# Altium integrated library Altera MAX 5000.IntLib: 45 symbols (part 2 of 2)
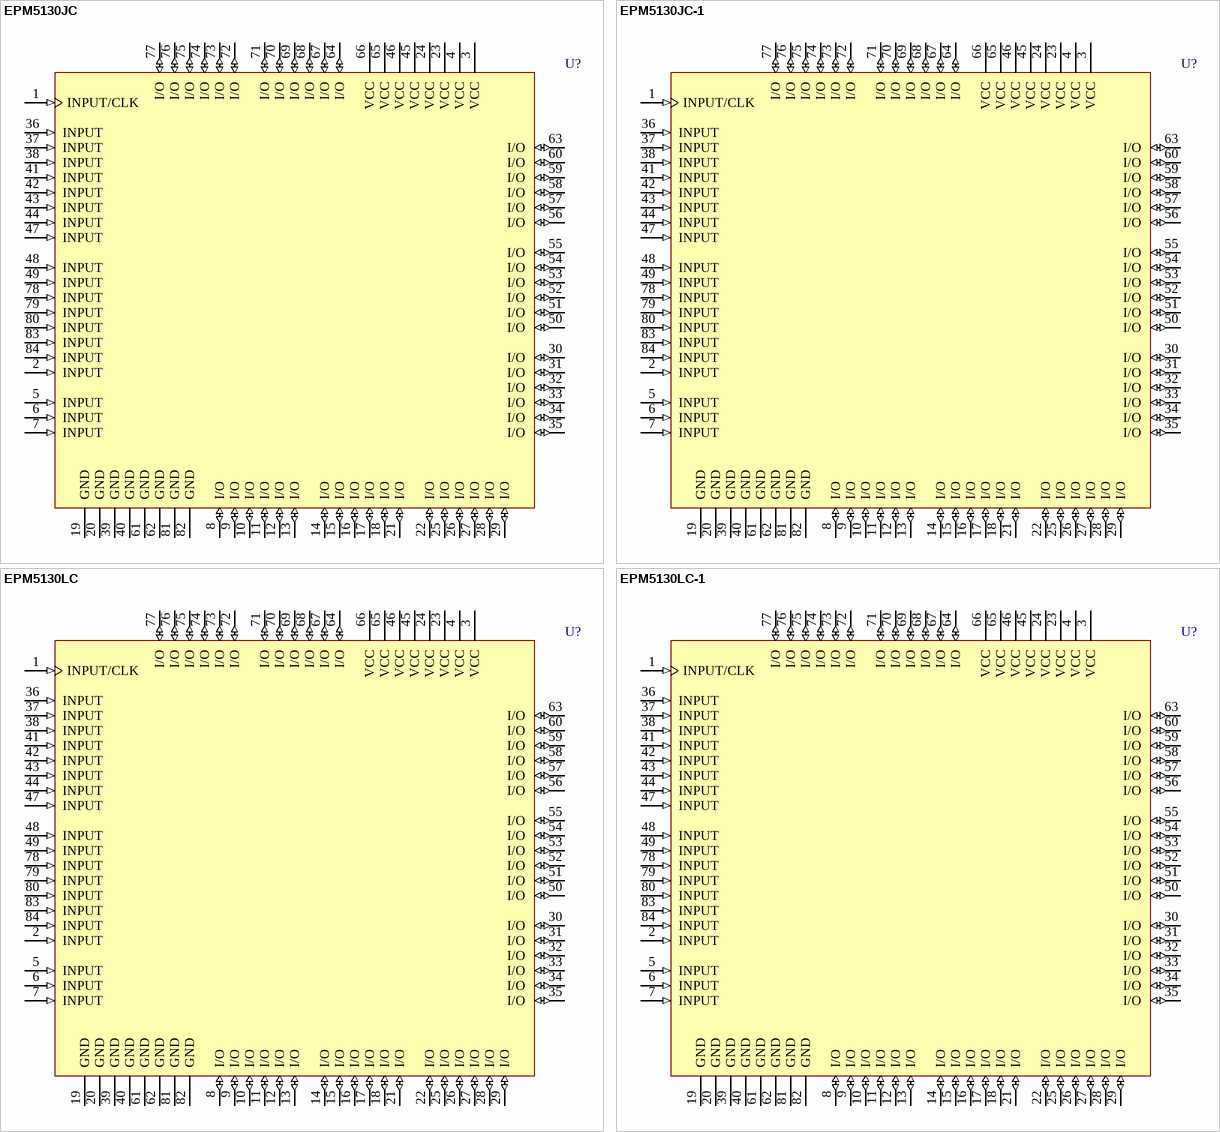
[diagram p7: symbols EPM5130JC to EPM5130LC-1]

## EPM5130JC-1
designator U?
General-Purpose MAX 5000 EPLD with 128 Macrocells, JLCC84, Commercial Grade; ComponentAvailability: Discontinued; Published: 24-Nov-2000; LatestRevisionDate: 13-Apr-2006; LatestRevisionNote: IPC-7351 Footprint Added.; DatasheetVersion: Mar-1995; PackageVersion: ver8.02, Jun-2000; PackageReference: JLCC84; Publisher: Altium Limited; PackageDescription: 84-Pin Ceramic J-Lead Chip Carrier (JLCC84); Code_JEDEC: MO-087; ComponentLink1Description: Manufacturer Link; ComponentLink1URL: http://www.altera.com/literature/lit-mature.jsp
footprint JLCC84_N (Leaded Chip Carrier, 84-Leads, Body 29.2x29.2mm, Pitch 1.27mm, IPC Medium Density)
footprint JLCC84_L (Leaded Chip Carrier, 84-Leads, Body 29.2x29.2mm, Pitch 1.27mm, IPC High Density)
footprint JLCC84_M (Leaded Chip Carrier, 84-Leads, Body 29.2x29.2mm, Pitch 1.27mm, IPC Low Density)
3D model EPM5130-JLCC84 (84-Pin Ceramic J-Lead Chip Carrier (JLCC84))
pins: 1 INPUT/CLK (in), 2 INPUT (in), 3 VCC (power), 4 VCC (power), 5 INPUT (in), 6 INPUT (in), 7 INPUT (in), 8 I/O (io), 9 I/O (io), 10 I/O (io), 11 I/O (io), 12 I/O (io), 13 I/O (io), 14 I/O (io), 15 I/O (io), 16 I/O (io), 17 I/O (io), 18 I/O (io), 19 GND (power), 20 GND (power), 21 I/O (io), 22 I/O (io), 23 VCC (power), 24 VCC (power), 25 I/O (io), 26 I/O (io), 27 I/O (io), 28 I/O (io), 29 I/O (io), 30 I/O (io), 31 I/O (io), 32 I/O (io), 33 I/O (io), 34 I/O (io), 35 I/O (io), 36 INPUT (in), 37 INPUT (in), 38 INPUT (in), 39 GND (power), 40 GND (power), 41 INPUT (in), 42 INPUT (in), 43 INPUT (in), 44 INPUT (in), 45 VCC (power), 46 VCC (power), 47 INPUT (in), 48 INPUT (in), 49 INPUT (in), 50 I/O (io), 51 I/O (io), 52 I/O (io), 53 I/O (io), 54 I/O (io), 55 I/O (io), 56 I/O (io), 57 I/O (io), 58 I/O (io), 59 I/O (io), 60 I/O (io), 61 GND (power), 62 GND (power), 63 I/O (io), 64 I/O (io), 65 VCC (power), 66 VCC (power), 67 I/O (io), 68 I/O (io), 69 I/O (io), 70 I/O (io), 71 I/O (io), 72 I/O (io), 73 I/O (io), 74 I/O (io), 75 I/O (io), 76 I/O (io), 77 I/O (io), 78 INPUT (in), 79 INPUT (in), 80 INPUT (in), 81 GND (power), 82 GND (power), 83 INPUT (in), 84 INPUT (in)

## EPM5130LC
designator U?
General-Purpose MAX 5000 EPLD with 128 Macrocells, PLCC84, Commercial Grade; ComponentAvailability: Discontinued; Published: 24-Nov-2000; LatestRevisionDate: 13-Apr-2006; LatestRevisionNote: IPC-7351 Footprint Added.; DatasheetVersion: Mar-1995; PackageVersion: ver14.1, Oct-2005; PackageReference: PLCC84; Publisher: Altium Limited; PackageDescription: 84-Pin Plastic J-Lead Chip Carrier (PLCC84); Code_JEDEC: MS-018-AF; Code_IPC: PLCC-84; ComponentLink1Description: Manufacturer Link; ComponentLink1URL: http://www.altera.com/literature/lit-mature.jsp
footprint PLCC84_N (Leaded Chip Carrier, 84-Leads, Body 29.3x29.3mm, Pitch 1.27mm, IPC Medium Density)
footprint PLCC84_L (Leaded Chip Carrier, 84-Leads, Body 29.3x29.3mm, Pitch 1.27mm, IPC High Density)
footprint PLCC84_M (Leaded Chip Carrier, 84-Leads, Body 29.3x29.3mm, Pitch 1.27mm, IPC Low Density)
3D model EPM5130-PLCC84 (84-Pin Plastic J-Lead Chip Carrier (PLCC84))
pins: 1 INPUT/CLK (in), 2 INPUT (in), 3 VCC (power), 4 VCC (power), 5 INPUT (in), 6 INPUT (in), 7 INPUT (in), 8 I/O (io), 9 I/O (io), 10 I/O (io), 11 I/O (io), 12 I/O (io), 13 I/O (io), 14 I/O (io), 15 I/O (io), 16 I/O (io), 17 I/O (io), 18 I/O (io), 19 GND (power), 20 GND (power), 21 I/O (io), 22 I/O (io), 23 VCC (power), 24 VCC (power), 25 I/O (io), 26 I/O (io), 27 I/O (io), 28 I/O (io), 29 I/O (io), 30 I/O (io), 31 I/O (io), 32 I/O (io), 33 I/O (io), 34 I/O (io), 35 I/O (io), 36 INPUT (in), 37 INPUT (in), 38 INPUT (in), 39 GND (power), 40 GND (power), 41 INPUT (in), 42 INPUT (in), 43 INPUT (in), 44 INPUT (in), 45 VCC (power), 46 VCC (power), 47 INPUT (in), 48 INPUT (in), 49 INPUT (in), 50 I/O (io), 51 I/O (io), 52 I/O (io), 53 I/O (io), 54 I/O (io), 55 I/O (io), 56 I/O (io), 57 I/O (io), 58 I/O (io), 59 I/O (io), 60 I/O (io), 61 GND (power), 62 GND (power), 63 I/O (io), 64 I/O (io), 65 VCC (power), 66 VCC (power), 67 I/O (io), 68 I/O (io), 69 I/O (io), 70 I/O (io), 71 I/O (io), 72 I/O (io), 73 I/O (io), 74 I/O (io), 75 I/O (io), 76 I/O (io), 77 I/O (io), 78 INPUT (in), 79 INPUT (in), 80 INPUT (in), 81 GND (power), 82 GND (power), 83 INPUT (in), 84 INPUT (in)

## EPM5130LC-1
designator U?
General-Purpose MAX 5000 EPLD with 128 Macrocells, PLCC84, Commercial Grade; ComponentAvailability: Discontinued; Published: 24-Nov-2000; LatestRevisionDate: 13-Apr-2006; LatestRevisionNote: IPC-7351 Footprint Added.; DatasheetVersion: Mar-1995; PackageVersion: ver14.1, Oct-2005; PackageReference: PLCC84; Publisher: Altium Limited; PackageDescription: 84-Pin Plastic J-Lead Chip Carrier (PLCC84); Code_JEDEC: MS-018-AF; Code_IPC: PLCC-84; ComponentLink1Description: Manufacturer Link; ComponentLink1URL: http://www.altera.com/literature/lit-mature.jsp
footprint PLCC84_N (Leaded Chip Carrier, 84-Leads, Body 29.3x29.3mm, Pitch 1.27mm, IPC Medium Density)
footprint PLCC84_L (Leaded Chip Carrier, 84-Leads, Body 29.3x29.3mm, Pitch 1.27mm, IPC High Density)
footprint PLCC84_M (Leaded Chip Carrier, 84-Leads, Body 29.3x29.3mm, Pitch 1.27mm, IPC Low Density)
3D model EPM5130-PLCC84 (84-Pin Plastic J-Lead Chip Carrier (PLCC84))
pins: 1 INPUT/CLK (in), 2 INPUT (in), 3 VCC (power), 4 VCC (power), 5 INPUT (in), 6 INPUT (in), 7 INPUT (in), 8 I/O (io), 9 I/O (io), 10 I/O (io), 11 I/O (io), 12 I/O (io), 13 I/O (io), 14 I/O (io), 15 I/O (io), 16 I/O (io), 17 I/O (io), 18 I/O (io), 19 GND (power), 20 GND (power), 21 I/O (io), 22 I/O (io), 23 VCC (power), 24 VCC (power), 25 I/O (io), 26 I/O (io), 27 I/O (io), 28 I/O (io), 29 I/O (io), 30 I/O (io), 31 I/O (io), 32 I/O (io), 33 I/O (io), 34 I/O (io), 35 I/O (io), 36 INPUT (in), 37 INPUT (in), 38 INPUT (in), 39 GND (power), 40 GND (power), 41 INPUT (in), 42 INPUT (in), 43 INPUT (in), 44 INPUT (in), 45 VCC (power), 46 VCC (power), 47 INPUT (in), 48 INPUT (in), 49 INPUT (in), 50 I/O (io), 51 I/O (io), 52 I/O (io), 53 I/O (io), 54 I/O (io), 55 I/O (io), 56 I/O (io), 57 I/O (io), 58 I/O (io), 59 I/O (io), 60 I/O (io), 61 GND (power), 62 GND (power), 63 I/O (io), 64 I/O (io), 65 VCC (power), 66 VCC (power), 67 I/O (io), 68 I/O (io), 69 I/O (io), 70 I/O (io), 71 I/O (io), 72 I/O (io), 73 I/O (io), 74 I/O (io), 75 I/O (io), 76 I/O (io), 77 I/O (io), 78 INPUT (in), 79 INPUT (in), 80 INPUT (in), 81 GND (power), 82 GND (power), 83 INPUT (in), 84 INPUT (in)

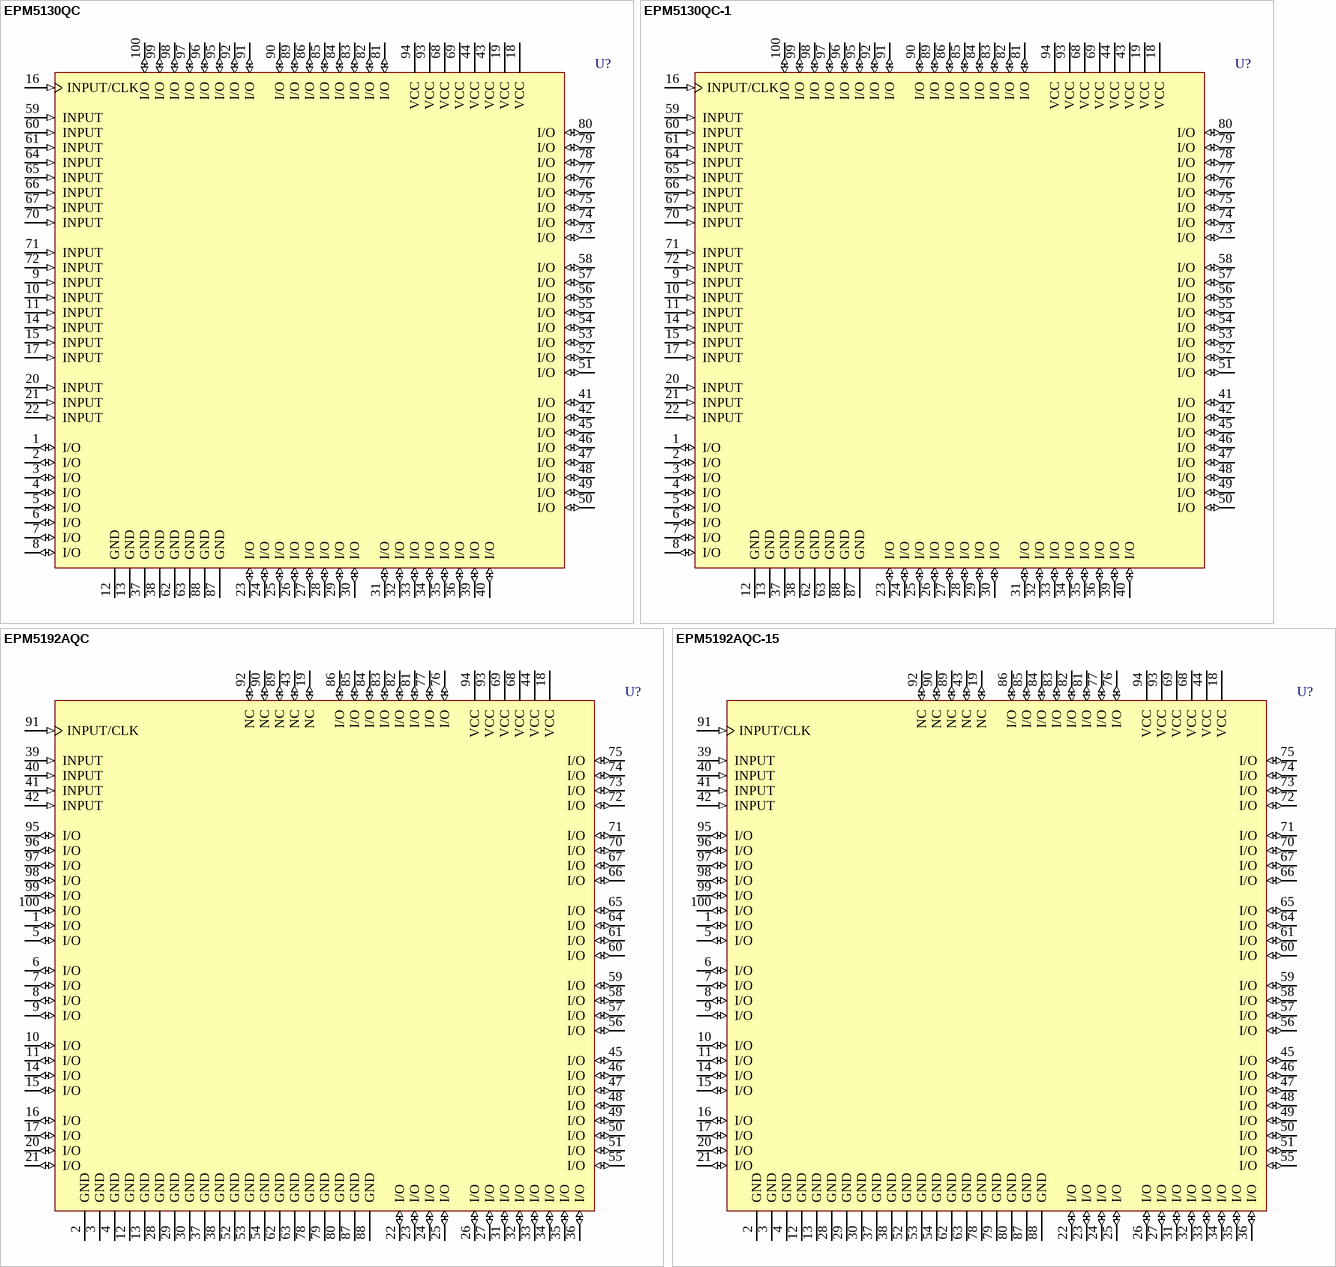
[diagram p4: symbols EPM5130QC to EPM5192AQC-15]

## EPM5130QC
designator U?
General-Purpose MAX 5000 EPLD with 128 Macrocells, PQFP100, Commercial Grade; ComponentAvailability: Discontinued; Published: 24-Nov-2000; LatestRevisionDate: 13-Apr-2006; LatestRevisionNote: IPC-7351 Footprint Added.; DatasheetVersion: Mar-1995; PackageVersion: ver14.1, Oct-2005; PackageReference: PQFP100; Publisher: Altium Limited; PackageDescription: 100-Pin Plastic Quad Flat Pack (PFQP100) - Option 1; Code_JEDEC: MS-022-GC-1; Code_IPC: QFP65P1720X2320-100; ComponentLink1Description: Manufacturer Link; ComponentLink1URL: http://www.altera.com/literature/lit-mature.jsp
footprint PQFP100_N (QFP, 100-Leads, Body 20x14mm, Pitch 0.65mm, IPC Medium Density)
footprint PQFP100_L (QFP, 100-Leads, Body 20x14mm, Pitch 0.65mm, IPC High Density)
footprint PQFP100_M (QFP, 100-Leads, Body 20x14mm, Pitch 0.65mm, IPC Low Density)
3D model EPM5130-PQFP100 (100-Pin Plastic Quad Flat Pack (PFQP100) - Option 1)
pins: 1 I/O (io), 2 I/O (io), 3 I/O (io), 4 I/O (io), 5 I/O (io), 6 I/O (io), 7 I/O (io), 8 I/O (io), 9 INPUT (in), 10 INPUT (in), 11 INPUT (in), 12 GND (power), 13 GND (power), 14 INPUT (in), 15 INPUT (in), 16 INPUT/CLK (in), 17 INPUT (in), 18 VCC (power), 19 VCC (power), 20 INPUT (in), 21 INPUT (in), 22 INPUT (in), 23 I/O (io), 24 I/O (io), 25 I/O (io), 26 I/O (io), 27 I/O (io), 28 I/O (io), 29 I/O (io), 30 I/O (io), 31 I/O (io), 32 I/O (io), 33 I/O (io), 34 I/O (io), 35 I/O (io), 36 I/O (io), 37 GND (power), 38 GND (power), 39 I/O (io), 40 I/O (io), 41 I/O (io), 42 I/O (io), 43 VCC (power), 44 VCC (power), 45 I/O (io), 46 I/O (io), 47 I/O (io), 48 I/O (io), 49 I/O (io), 50 I/O (io), 51 I/O (io), 52 I/O (io), 53 I/O (io), 54 I/O (io), 55 I/O (io), 56 I/O (io), 57 I/O (io), 58 I/O (io), 59 INPUT (in), 60 INPUT (in), 61 INPUT (in), 62 GND (power), 63 GND (power), 64 INPUT (in), 65 INPUT (in), 66 INPUT (in), 67 INPUT (in), 68 VCC (power), 69 VCC (power), 70 INPUT (in), 71 INPUT (in), 72 INPUT (in), 73 I/O (io), 74 I/O (io), 75 I/O (io), 76 I/O (io), 77 I/O (io), 78 I/O (io), 79 I/O (io), 80 I/O (io), 81 I/O (io), 82 I/O (io), 83 I/O (io), 84 I/O (io), 85 I/O (io), 86 I/O (io), 87 GND (power), 88 GND (power), 89 I/O (io), 90 I/O (io), 91 I/O (io), 92 I/O (io), 93 VCC (power), 94 VCC (power), 95 I/O (io), 96 I/O (io), 97 I/O (io), 98 I/O (io), 99 I/O (io), 100 I/O (io)

## EPM5130QC-1
designator U?
General-Purpose MAX 5000 EPLD with 128 Macrocells, PQFP100, Commercial Grade; ComponentAvailability: Discontinued; Published: 24-Nov-2000; LatestRevisionDate: 13-Apr-2006; LatestRevisionNote: IPC-7351 Footprint Added.; DatasheetVersion: Mar-1995; PackageVersion: ver14.1, Oct-2005; PackageReference: PQFP100; Publisher: Altium Limited; PackageDescription: 100-Pin Plastic Quad Flat Pack (PFQP100) - Option 1; Code_JEDEC: MS-022-GC-1; Code_IPC: QFP65P1720X2320-100; ComponentLink1Description: Manufacturer Link; ComponentLink1URL: http://www.altera.com/literature/lit-mature.jsp
footprint PQFP100_N (QFP, 100-Leads, Body 20x14mm, Pitch 0.65mm, IPC Medium Density)
footprint PQFP100_L (QFP, 100-Leads, Body 20x14mm, Pitch 0.65mm, IPC High Density)
footprint PQFP100_M (QFP, 100-Leads, Body 20x14mm, Pitch 0.65mm, IPC Low Density)
3D model EPM5130-PQFP100 (100-Pin Plastic Quad Flat Pack (PFQP100) - Option 1)
pins: 1 I/O (io), 2 I/O (io), 3 I/O (io), 4 I/O (io), 5 I/O (io), 6 I/O (io), 7 I/O (io), 8 I/O (io), 9 INPUT (in), 10 INPUT (in), 11 INPUT (in), 12 GND (power), 13 GND (power), 14 INPUT (in), 15 INPUT (in), 16 INPUT/CLK (in), 17 INPUT (in), 18 VCC (power), 19 VCC (power), 20 INPUT (in), 21 INPUT (in), 22 INPUT (in), 23 I/O (io), 24 I/O (io), 25 I/O (io), 26 I/O (io), 27 I/O (io), 28 I/O (io), 29 I/O (io), 30 I/O (io), 31 I/O (io), 32 I/O (io), 33 I/O (io), 34 I/O (io), 35 I/O (io), 36 I/O (io), 37 GND (power), 38 GND (power), 39 I/O (io), 40 I/O (io), 41 I/O (io), 42 I/O (io), 43 VCC (power), 44 VCC (power), 45 I/O (io), 46 I/O (io), 47 I/O (io), 48 I/O (io), 49 I/O (io), 50 I/O (io), 51 I/O (io), 52 I/O (io), 53 I/O (io), 54 I/O (io), 55 I/O (io), 56 I/O (io), 57 I/O (io), 58 I/O (io), 59 INPUT (in), 60 INPUT (in), 61 INPUT (in), 62 GND (power), 63 GND (power), 64 INPUT (in), 65 INPUT (in), 66 INPUT (in), 67 INPUT (in), 68 VCC (power), 69 VCC (power), 70 INPUT (in), 71 INPUT (in), 72 INPUT (in), 73 I/O (io), 74 I/O (io), 75 I/O (io), 76 I/O (io), 77 I/O (io), 78 I/O (io), 79 I/O (io), 80 I/O (io), 81 I/O (io), 82 I/O (io), 83 I/O (io), 84 I/O (io), 85 I/O (io), 86 I/O (io), 87 GND (power), 88 GND (power), 89 I/O (io), 90 I/O (io), 91 I/O (io), 92 I/O (io), 93 VCC (power), 94 VCC (power), 95 I/O (io), 96 I/O (io), 97 I/O (io), 98 I/O (io), 99 I/O (io), 100 I/O (io)

## EPM5192AQC
designator U?
General-Purpose MAX 5000 EPLD with 192 Macrocells, PQFP100, Commercial Grade; ComponentAvailability: Discontinued; Published: 24-Nov-2000; LatestRevisionDate: 13-Apr-2006; LatestRevisionNote: IPC-7351 Footprint Added.; DatasheetVersion: Mar-1995; PackageVersion: ver14.1, Oct-2005; PackageReference: PQFP100; Publisher: Altium Limited; PackageDescription: 100-Pin Plastic Quad Flat Pack (PFQP100) - Option 1; Code_JEDEC: MS-022-GC-1; Code_IPC: QFP65P1720X2320-100; ComponentLink1Description: Manufacturer Link; ComponentLink1URL: http://www.altera.com/literature/lit-mature.jsp
footprint PQFP100_N (QFP, 100-Leads, Body 20x14mm, Pitch 0.65mm, IPC Medium Density)
footprint PQFP100_L (QFP, 100-Leads, Body 20x14mm, Pitch 0.65mm, IPC High Density)
footprint PQFP100_M (QFP, 100-Leads, Body 20x14mm, Pitch 0.65mm, IPC Low Density)
3D model EPM5192-PQFP100 (100-Pin Plastic Quad Flat Pack (PFQP100) - Option 1)
pins: 1 I/O (io), 2 GND (power), 3 GND (power), 4 GND (power), 5 I/O (io), 6 I/O (io), 7 I/O (io), 8 I/O (io), 9 I/O (io), 10 I/O (io), 11 I/O (io), 12 GND (power), 13 GND (power), 14 I/O (io), 15 I/O (io), 16 I/O (io), 17 I/O (io), 18 VCC (power), 19 NC (io), 20 I/O (io), 21 I/O (io), 22 I/O (io), 23 I/O (io), 24 I/O (io), 25 I/O (io), 26 I/O (io), 27 I/O (io), 28 GND (power), 29 GND (power), 30 GND (power), 31 I/O (io), 32 I/O (io), 33 I/O (io), 34 I/O (io), 35 I/O (io), 36 I/O (io), 37 GND (power), 38 GND (power), 39 INPUT (in), 40 INPUT (in), 41 INPUT (in), 42 INPUT (in), 43 NC (io), 44 VCC (power), 45 I/O (io), 46 I/O (io), 47 I/O (io), 48 I/O (io), 49 I/O (io), 50 I/O (io), 51 I/O (io), 52 GND (power), 53 GND (power), 54 GND (power), 55 I/O (io), 56 I/O (io), 57 I/O (io), 58 I/O (io), 59 I/O (io), 60 I/O (io), 61 I/O (io), 62 GND (power), 63 GND (power), 64 I/O (io), 65 I/O (io), 66 I/O (io), 67 I/O (io), 68 VCC (power), 69 VCC (power), 70 I/O (io), 71 I/O (io), 72 I/O (io), 73 I/O (io), 74 I/O (io), 75 I/O (io), 76 I/O (io), 77 I/O (io), 78 GND (power), 79 GND (power), 80 GND (power), 81 I/O (io), 82 I/O (io), 83 I/O (io), 84 I/O (io), 85 I/O (io), 86 I/O (io), 87 GND (power), 88 GND (power), 89 NC (io), 90 NC (io), 91 INPUT/CLK (in), 92 NC (io), 93 VCC (power), 94 VCC (power), 95 I/O (io), 96 I/O (io), 97 I/O (io), 98 I/O (io), 99 I/O (io), 100 I/O (io)

## EPM5192AQC-15
designator U?
General-Purpose MAX 5000 EPLD with 192 Macrocells, PQFP100, Commercial Grade; ComponentAvailability: Discontinued; Published: 24-Nov-2000; LatestRevisionDate: 13-Apr-2006; LatestRevisionNote: IPC-7351 Footprint Added.; DatasheetVersion: Mar-1995; PackageVersion: ver14.1, Oct-2005; PackageReference: PQFP100; Publisher: Altium Limited; PackageDescription: 100-Pin Plastic Quad Flat Pack (PFQP100) - Option 1; Code_JEDEC: MS-022-GC-1; Code_IPC: QFP65P1720X2320-100; ComponentLink1Description: Manufacturer Link; ComponentLink1URL: http://www.altera.com/literature/lit-mature.jsp
footprint PQFP100_N (QFP, 100-Leads, Body 20x14mm, Pitch 0.65mm, IPC Medium Density)
footprint PQFP100_L (QFP, 100-Leads, Body 20x14mm, Pitch 0.65mm, IPC High Density)
footprint PQFP100_M (QFP, 100-Leads, Body 20x14mm, Pitch 0.65mm, IPC Low Density)
3D model EPM5192-PQFP100 (100-Pin Plastic Quad Flat Pack (PFQP100) - Option 1)
pins: 1 I/O (io), 2 GND (power), 3 GND (power), 4 GND (power), 5 I/O (io), 6 I/O (io), 7 I/O (io), 8 I/O (io), 9 I/O (io), 10 I/O (io), 11 I/O (io), 12 GND (power), 13 GND (power), 14 I/O (io), 15 I/O (io), 16 I/O (io), 17 I/O (io), 18 VCC (power), 19 NC (io), 20 I/O (io), 21 I/O (io), 22 I/O (io), 23 I/O (io), 24 I/O (io), 25 I/O (io), 26 I/O (io), 27 I/O (io), 28 GND (power), 29 GND (power), 30 GND (power), 31 I/O (io), 32 I/O (io), 33 I/O (io), 34 I/O (io), 35 I/O (io), 36 I/O (io), 37 GND (power), 38 GND (power), 39 INPUT (in), 40 INPUT (in), 41 INPUT (in), 42 INPUT (in), 43 NC (io), 44 VCC (power), 45 I/O (io), 46 I/O (io), 47 I/O (io), 48 I/O (io), 49 I/O (io), 50 I/O (io), 51 I/O (io), 52 GND (power), 53 GND (power), 54 GND (power), 55 I/O (io), 56 I/O (io), 57 I/O (io), 58 I/O (io), 59 I/O (io), 60 I/O (io), 61 I/O (io), 62 GND (power), 63 GND (power), 64 I/O (io), 65 I/O (io), 66 I/O (io), 67 I/O (io), 68 VCC (power), 69 VCC (power), 70 I/O (io), 71 I/O (io), 72 I/O (io), 73 I/O (io), 74 I/O (io), 75 I/O (io), 76 I/O (io), 77 I/O (io), 78 GND (power), 79 GND (power), 80 GND (power), 81 I/O (io), 82 I/O (io), 83 I/O (io), 84 I/O (io), 85 I/O (io), 86 I/O (io), 87 GND (power), 88 GND (power), 89 NC (io), 90 NC (io), 91 INPUT/CLK (in), 92 NC (io), 93 VCC (power), 94 VCC (power), 95 I/O (io), 96 I/O (io), 97 I/O (io), 98 I/O (io), 99 I/O (io), 100 I/O (io)

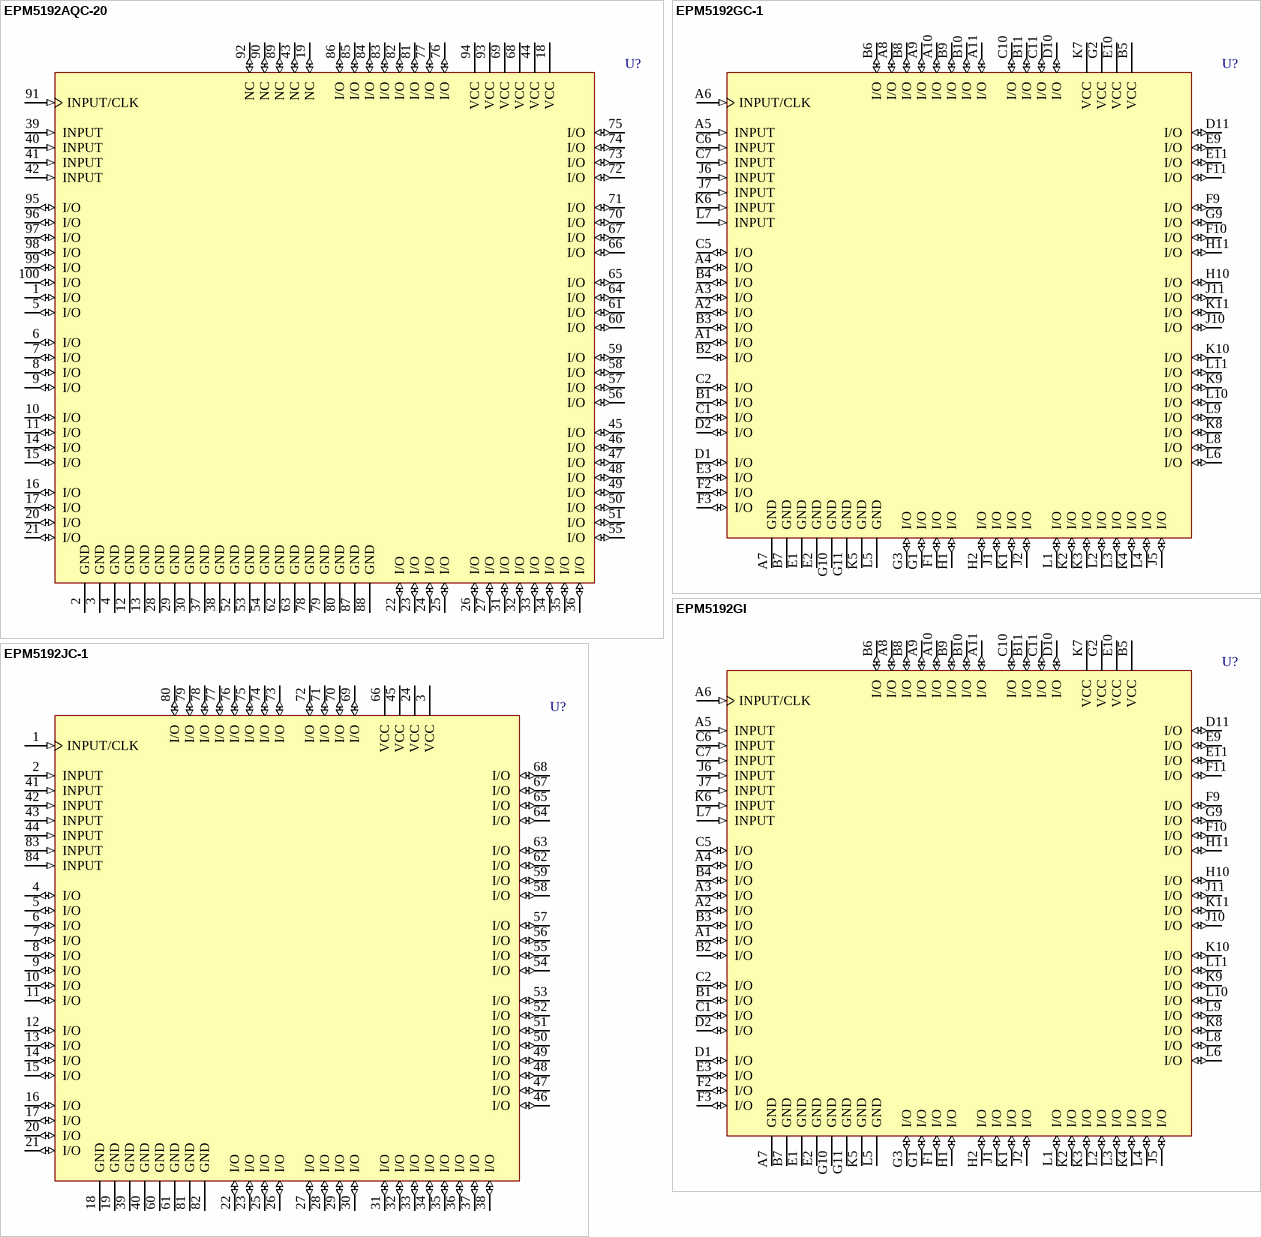
[diagram p5: symbols EPM5192AQC-20 to EPM5192JC-1]

## EPM5192AQC-20
designator U?
General-Purpose MAX 5000 EPLD with 192 Macrocells, PQFP100, Commercial Grade; ComponentAvailability: Discontinued; Published: 24-Nov-2000; LatestRevisionDate: 13-Apr-2006; LatestRevisionNote: IPC-7351 Footprint Added.; DatasheetVersion: Mar-1995; PackageVersion: ver14.1, Oct-2005; PackageReference: PQFP100; Publisher: Altium Limited; PackageDescription: 100-Pin Plastic Quad Flat Pack (PFQP100) - Option 1; Code_JEDEC: MS-022-GC-1; Code_IPC: QFP65P1720X2320-100; ComponentLink1Description: Manufacturer Link; ComponentLink1URL: http://www.altera.com/literature/lit-mature.jsp
footprint PQFP100_N (QFP, 100-Leads, Body 20x14mm, Pitch 0.65mm, IPC Medium Density)
footprint PQFP100_L (QFP, 100-Leads, Body 20x14mm, Pitch 0.65mm, IPC High Density)
footprint PQFP100_M (QFP, 100-Leads, Body 20x14mm, Pitch 0.65mm, IPC Low Density)
3D model EPM5192-PQFP100 (100-Pin Plastic Quad Flat Pack (PFQP100) - Option 1)
pins: 1 I/O (io), 2 GND (power), 3 GND (power), 4 GND (power), 5 I/O (io), 6 I/O (io), 7 I/O (io), 8 I/O (io), 9 I/O (io), 10 I/O (io), 11 I/O (io), 12 GND (power), 13 GND (power), 14 I/O (io), 15 I/O (io), 16 I/O (io), 17 I/O (io), 18 VCC (power), 19 NC (io), 20 I/O (io), 21 I/O (io), 22 I/O (io), 23 I/O (io), 24 I/O (io), 25 I/O (io), 26 I/O (io), 27 I/O (io), 28 GND (power), 29 GND (power), 30 GND (power), 31 I/O (io), 32 I/O (io), 33 I/O (io), 34 I/O (io), 35 I/O (io), 36 I/O (io), 37 GND (power), 38 GND (power), 39 INPUT (in), 40 INPUT (in), 41 INPUT (in), 42 INPUT (in), 43 NC (io), 44 VCC (power), 45 I/O (io), 46 I/O (io), 47 I/O (io), 48 I/O (io), 49 I/O (io), 50 I/O (io), 51 I/O (io), 52 GND (power), 53 GND (power), 54 GND (power), 55 I/O (io), 56 I/O (io), 57 I/O (io), 58 I/O (io), 59 I/O (io), 60 I/O (io), 61 I/O (io), 62 GND (power), 63 GND (power), 64 I/O (io), 65 I/O (io), 66 I/O (io), 67 I/O (io), 68 VCC (power), 69 VCC (power), 70 I/O (io), 71 I/O (io), 72 I/O (io), 73 I/O (io), 74 I/O (io), 75 I/O (io), 76 I/O (io), 77 I/O (io), 78 GND (power), 79 GND (power), 80 GND (power), 81 I/O (io), 82 I/O (io), 83 I/O (io), 84 I/O (io), 85 I/O (io), 86 I/O (io), 87 GND (power), 88 GND (power), 89 NC (io), 90 NC (io), 91 INPUT/CLK (in), 92 NC (io), 93 VCC (power), 94 VCC (power), 95 I/O (io), 96 I/O (io), 97 I/O (io), 98 I/O (io), 99 I/O (io), 100 I/O (io)

## EPM5192GC-1
designator U?
General-Purpose MAX 5000 EPLD with 192 Macrocells, PGA84, Commercial Grade; ComponentAvailability: Discontinued; Published: 24-Nov-2000; LatestRevisionDate: 04-Mar-2005; LatestRevisionNote: Stylized 3D Model Added.; DatasheetVersion: Mar-1995; PackageVersion: ver8.02, Jun-2000; PackageReference: PGA84; Publisher: Altium Limited; PackageDescription: 84-Pin Ceramic Pin Grid Array (PGA84); Code_JEDEC: MO-067; ComponentLink1Description: Manufacturer Link; ComponentLink1URL: http://www.altera.com/literature/lit-mature.jsp
footprint PGA84 (PGA, 84-Leads, Body 28.4x28.4mm, Pitch 2.54mm)
3D model EPM5192-PGA84 (84-Pin Ceramic Pin Grid Array (PGA84))
pins: A1 I/O (io), A2 I/O (io), A3 I/O (io), A4 I/O (io), A5 INPUT (in), A6 INPUT/CLK (in), A7 GND (power), A8 I/O (io), A9 I/O (io), A10 I/O (io), A11 I/O (io), B1 I/O (io), B2 I/O (io), B3 I/O (io), B4 I/O (io), B5 VCC (power), B6 I/O (io), B7 GND (power), B8 I/O (io), B9 I/O (io), B10 I/O (io), B11 I/O (io), C1 I/O (io), C2 I/O (io), C5 I/O (io), C6 INPUT (in), C7 INPUT (in), C10 I/O (io), C11 I/O (io), D1 I/O (io), D2 I/O (io), D10 I/O (io), D11 I/O (io), E1 GND (power), E2 GND (power), E3 I/O (io), E9 I/O (io), E10 VCC (power), E11 I/O (io), F1 I/O (io), F2 I/O (io), F3 I/O (io), F9 I/O (io), F10 I/O (io), F11 I/O (io), G1 I/O (io), G2 VCC (power), G3 I/O (io), G9 I/O (io), G10 GND (power), G11 GND (power), H1 I/O (io), H2 I/O (io), H10 I/O (io), H11 I/O (io), J1 I/O (io), J2 I/O (io), J5 I/O (io), J6 INPUT (in), J7 INPUT (in), J10 I/O (io), J11 I/O (io), K1 I/O (io), K2 I/O (io), K3 I/O (io), K4 I/O (io), K5 GND (power), K6 INPUT (in), K7 VCC (power), K8 I/O (io), K9 I/O (io), K10 I/O (io), K11 I/O (io), L1 I/O (io), L2 I/O (io), L3 I/O (io), L4 I/O (io), L5 GND (power), L6 I/O (io), L7 INPUT (in), L8 I/O (io), L9 I/O (io), L10 I/O (io), L11 I/O (io)

## EPM5192GI
designator U?
General-Purpose MAX 5000 EPLD with 192 Macrocells, PGA84, Industrial Grade; ComponentAvailability: Discontinued; Published: 24-Nov-2000; LatestRevisionDate: 04-Mar-2005; LatestRevisionNote: Stylized 3D Model Added.; DatasheetVersion: Mar-1995; PackageVersion: ver8.02, Jun-2000; PackageReference: PGA84; Publisher: Altium Limited; PackageDescription: 84-Pin Ceramic Pin Grid Array (PGA84); Code_JEDEC: MO-067; ComponentLink1Description: Manufacturer Link; ComponentLink1URL: http://www.altera.com/literature/lit-mature.jsp
footprint PGA84 (PGA, 84-Leads, Body 28.4x28.4mm, Pitch 2.54mm)
3D model EPM5192-PGA84 (84-Pin Ceramic Pin Grid Array (PGA84))
pins: A1 I/O (io), A2 I/O (io), A3 I/O (io), A4 I/O (io), A5 INPUT (in), A6 INPUT/CLK (in), A7 GND (power), A8 I/O (io), A9 I/O (io), A10 I/O (io), A11 I/O (io), B1 I/O (io), B2 I/O (io), B3 I/O (io), B4 I/O (io), B5 VCC (power), B6 I/O (io), B7 GND (power), B8 I/O (io), B9 I/O (io), B10 I/O (io), B11 I/O (io), C1 I/O (io), C2 I/O (io), C5 I/O (io), C6 INPUT (in), C7 INPUT (in), C10 I/O (io), C11 I/O (io), D1 I/O (io), D2 I/O (io), D10 I/O (io), D11 I/O (io), E1 GND (power), E2 GND (power), E3 I/O (io), E9 I/O (io), E10 VCC (power), E11 I/O (io), F1 I/O (io), F2 I/O (io), F3 I/O (io), F9 I/O (io), F10 I/O (io), F11 I/O (io), G1 I/O (io), G2 VCC (power), G3 I/O (io), G9 I/O (io), G10 GND (power), G11 GND (power), H1 I/O (io), H2 I/O (io), H10 I/O (io), H11 I/O (io), J1 I/O (io), J2 I/O (io), J5 I/O (io), J6 INPUT (in), J7 INPUT (in), J10 I/O (io), J11 I/O (io), K1 I/O (io), K2 I/O (io), K3 I/O (io), K4 I/O (io), K5 GND (power), K6 INPUT (in), K7 VCC (power), K8 I/O (io), K9 I/O (io), K10 I/O (io), K11 I/O (io), L1 I/O (io), L2 I/O (io), L3 I/O (io), L4 I/O (io), L5 GND (power), L6 I/O (io), L7 INPUT (in), L8 I/O (io), L9 I/O (io), L10 I/O (io), L11 I/O (io)

## EPM5192JC-1
designator U?
General-Purpose MAX 5000 EPLD with 192 Macrocells, JLCC84, Commercial Grade; ComponentAvailability: Discontinued; Published: 24-Nov-2000; LatestRevisionDate: 13-Apr-2006; LatestRevisionNote: IPC-7351 Footprint Added.; DatasheetVersion: Mar-1995; PackageVersion: ver8.02, Jun-2000; PackageReference: JLCC84; Publisher: Altium Limited; PackageDescription: 84-Pin Ceramic J-Lead Chip Carrier (JLCC84); Code_JEDEC: MO-087; ComponentLink1Description: Manufacturer Link; ComponentLink1URL: http://www.altera.com/literature/lit-mature.jsp
footprint JLCC84_N (Leaded Chip Carrier, 84-Leads, Body 29.2x29.2mm, Pitch 1.27mm, IPC Medium Density)
footprint JLCC84_L (Leaded Chip Carrier, 84-Leads, Body 29.2x29.2mm, Pitch 1.27mm, IPC High Density)
footprint JLCC84_M (Leaded Chip Carrier, 84-Leads, Body 29.2x29.2mm, Pitch 1.27mm, IPC Low Density)
3D model EPM5192-JLCC84 (84-Pin Ceramic J-Lead Chip Carrier (JLCC84))
pins: 1 INPUT/CLK (in), 2 INPUT (in), 3 VCC (power), 4 I/O (io), 5 I/O (io), 6 I/O (io), 7 I/O (io), 8 I/O (io), 9 I/O (io), 10 I/O (io), 11 I/O (io), 12 I/O (io), 13 I/O (io), 14 I/O (io), 15 I/O (io), 16 I/O (io), 17 I/O (io), 18 GND (power), 19 GND (power), 20 I/O (io), 21 I/O (io), 22 I/O (io), 23 I/O (io), 24 VCC (power), 25 I/O (io), 26 I/O (io), 27 I/O (io), 28 I/O (io), 29 I/O (io), 30 I/O (io), 31 I/O (io), 32 I/O (io), 33 I/O (io), 34 I/O (io), 35 I/O (io), 36 I/O (io), 37 I/O (io), 38 I/O (io), 39 GND (power), 40 GND (power), 41 INPUT (in), 42 INPUT (in), 43 INPUT (in), 44 INPUT (in), 45 VCC (power), 46 I/O (io), 47 I/O (io), 48 I/O (io), 49 I/O (io), 50 I/O (io), 51 I/O (io), 52 I/O (io), 53 I/O (io), 54 I/O (io), 55 I/O (io), 56 I/O (io), 57 I/O (io), 58 I/O (io), 59 I/O (io), 60 GND (power), 61 GND (power), 62 I/O (io), 63 I/O (io), 64 I/O (io), 65 I/O (io), 66 VCC (power), 67 I/O (io), 68 I/O (io), 69 I/O (io), 70 I/O (io), 71 I/O (io), 72 I/O (io), 73 I/O (io), 74 I/O (io), 75 I/O (io), 76 I/O (io), 77 I/O (io), 78 I/O (io), 79 I/O (io), 80 I/O (io), 81 GND (power), 82 GND (power), 83 INPUT (in), 84 INPUT (in)

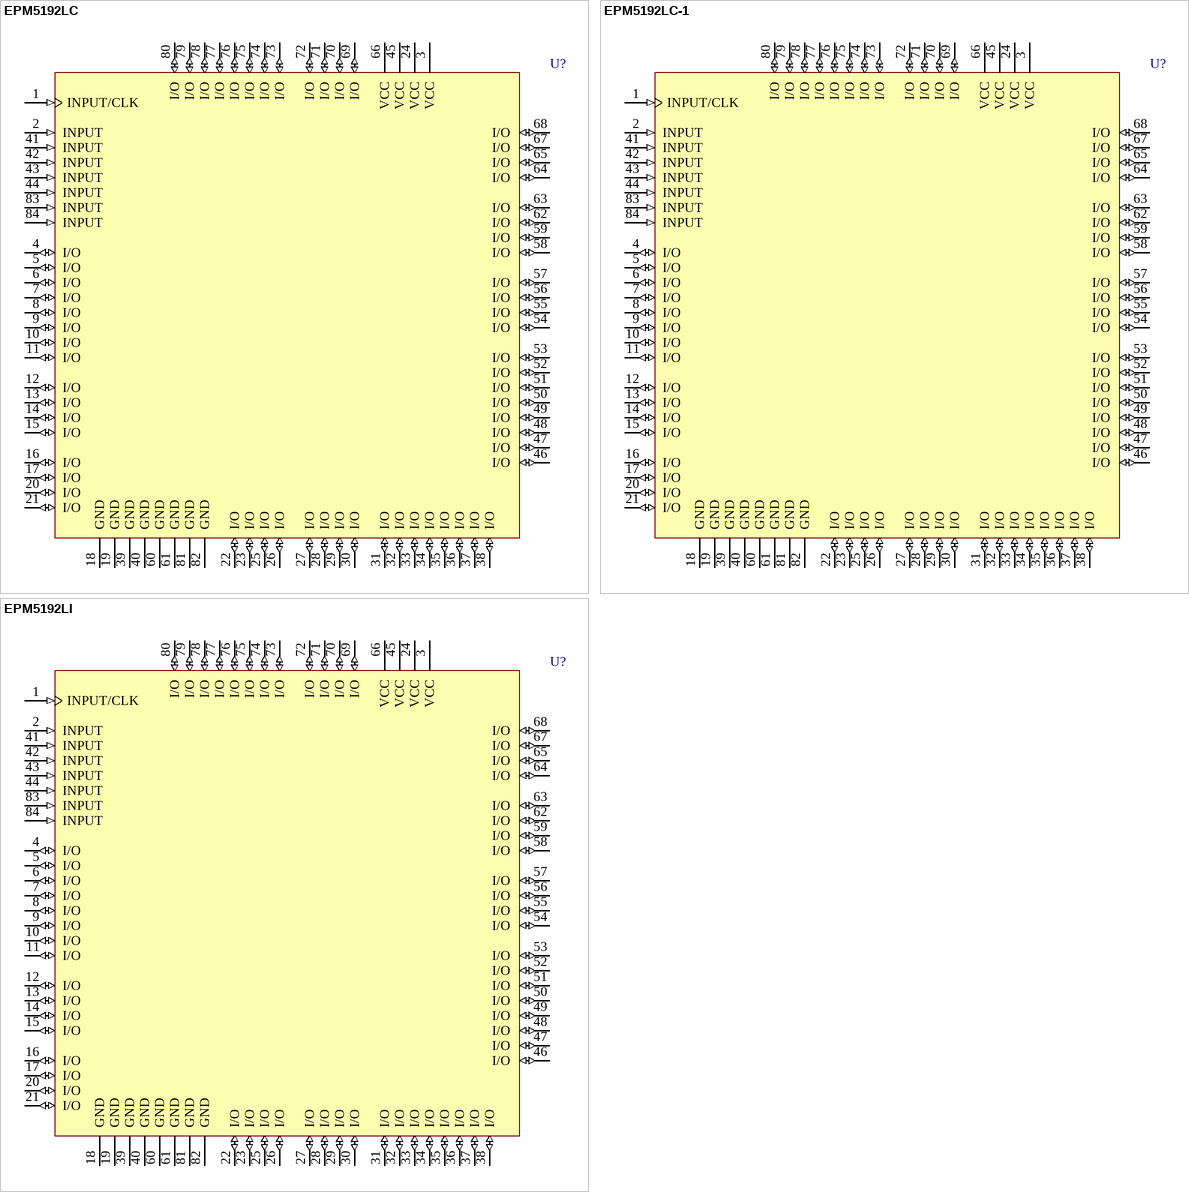
[diagram p6: symbols EPM5192LC to EPM5192LI]

## EPM5192LC
designator U?
General-Purpose MAX 5000 EPLD with 192 Macrocells, PLCC84, Commercial Grade; ComponentAvailability: Discontinued; Published: 24-Nov-2000; LatestRevisionDate: 13-Apr-2006; LatestRevisionNote: IPC-7351 Footprint Added.; DatasheetVersion: Mar-1995; PackageVersion: ver14.1, Oct-2005; PackageReference: PLCC84; Publisher: Altium Limited; PackageDescription: 84-Pin Plastic J-Lead Chip Carrier (PLCC84); Code_JEDEC: MS-018-AF; Code_IPC: PLCC-84; ComponentLink1Description: Manufacturer Link; ComponentLink1URL: http://www.altera.com/literature/lit-mature.jsp
footprint PLCC84_N (Leaded Chip Carrier, 84-Leads, Body 29.3x29.3mm, Pitch 1.27mm, IPC Medium Density)
footprint PLCC84_L (Leaded Chip Carrier, 84-Leads, Body 29.3x29.3mm, Pitch 1.27mm, IPC High Density)
footprint PLCC84_M (Leaded Chip Carrier, 84-Leads, Body 29.3x29.3mm, Pitch 1.27mm, IPC Low Density)
3D model EPM5192-PLCC84 (84-Pin Plastic J-Lead Chip Carrier (PLCC84))
pins: 1 INPUT/CLK (in), 2 INPUT (in), 3 VCC (power), 4 I/O (io), 5 I/O (io), 6 I/O (io), 7 I/O (io), 8 I/O (io), 9 I/O (io), 10 I/O (io), 11 I/O (io), 12 I/O (io), 13 I/O (io), 14 I/O (io), 15 I/O (io), 16 I/O (io), 17 I/O (io), 18 GND (power), 19 GND (power), 20 I/O (io), 21 I/O (io), 22 I/O (io), 23 I/O (io), 24 VCC (power), 25 I/O (io), 26 I/O (io), 27 I/O (io), 28 I/O (io), 29 I/O (io), 30 I/O (io), 31 I/O (io), 32 I/O (io), 33 I/O (io), 34 I/O (io), 35 I/O (io), 36 I/O (io), 37 I/O (io), 38 I/O (io), 39 GND (power), 40 GND (power), 41 INPUT (in), 42 INPUT (in), 43 INPUT (in), 44 INPUT (in), 45 VCC (power), 46 I/O (io), 47 I/O (io), 48 I/O (io), 49 I/O (io), 50 I/O (io), 51 I/O (io), 52 I/O (io), 53 I/O (io), 54 I/O (io), 55 I/O (io), 56 I/O (io), 57 I/O (io), 58 I/O (io), 59 I/O (io), 60 GND (power), 61 GND (power), 62 I/O (io), 63 I/O (io), 64 I/O (io), 65 I/O (io), 66 VCC (power), 67 I/O (io), 68 I/O (io), 69 I/O (io), 70 I/O (io), 71 I/O (io), 72 I/O (io), 73 I/O (io), 74 I/O (io), 75 I/O (io), 76 I/O (io), 77 I/O (io), 78 I/O (io), 79 I/O (io), 80 I/O (io), 81 GND (power), 82 GND (power), 83 INPUT (in), 84 INPUT (in)

## EPM5192LC-1
designator U?
General-Purpose MAX 5000 EPLD with 192 Macrocells, PLCC84, Commercial Grade; ComponentAvailability: Discontinued; Published: 24-Nov-2000; LatestRevisionDate: 13-Apr-2006; LatestRevisionNote: IPC-7351 Footprint Added.; DatasheetVersion: Mar-1995; PackageVersion: ver14.1, Oct-2005; PackageReference: PLCC84; Publisher: Altium Limited; PackageDescription: 84-Pin Plastic J-Lead Chip Carrier (PLCC84); Code_JEDEC: MS-018-AF; Code_IPC: PLCC-84; ComponentLink1Description: Manufacturer Link; ComponentLink1URL: http://www.altera.com/literature/lit-mature.jsp
footprint PLCC84_N (Leaded Chip Carrier, 84-Leads, Body 29.3x29.3mm, Pitch 1.27mm, IPC Medium Density)
footprint PLCC84_L (Leaded Chip Carrier, 84-Leads, Body 29.3x29.3mm, Pitch 1.27mm, IPC High Density)
footprint PLCC84_M (Leaded Chip Carrier, 84-Leads, Body 29.3x29.3mm, Pitch 1.27mm, IPC Low Density)
3D model EPM5192-PLCC84 (84-Pin Plastic J-Lead Chip Carrier (PLCC84))
pins: 1 INPUT/CLK (in), 2 INPUT (in), 3 VCC (power), 4 I/O (io), 5 I/O (io), 6 I/O (io), 7 I/O (io), 8 I/O (io), 9 I/O (io), 10 I/O (io), 11 I/O (io), 12 I/O (io), 13 I/O (io), 14 I/O (io), 15 I/O (io), 16 I/O (io), 17 I/O (io), 18 GND (power), 19 GND (power), 20 I/O (io), 21 I/O (io), 22 I/O (io), 23 I/O (io), 24 VCC (power), 25 I/O (io), 26 I/O (io), 27 I/O (io), 28 I/O (io), 29 I/O (io), 30 I/O (io), 31 I/O (io), 32 I/O (io), 33 I/O (io), 34 I/O (io), 35 I/O (io), 36 I/O (io), 37 I/O (io), 38 I/O (io), 39 GND (power), 40 GND (power), 41 INPUT (in), 42 INPUT (in), 43 INPUT (in), 44 INPUT (in), 45 VCC (power), 46 I/O (io), 47 I/O (io), 48 I/O (io), 49 I/O (io), 50 I/O (io), 51 I/O (io), 52 I/O (io), 53 I/O (io), 54 I/O (io), 55 I/O (io), 56 I/O (io), 57 I/O (io), 58 I/O (io), 59 I/O (io), 60 GND (power), 61 GND (power), 62 I/O (io), 63 I/O (io), 64 I/O (io), 65 I/O (io), 66 VCC (power), 67 I/O (io), 68 I/O (io), 69 I/O (io), 70 I/O (io), 71 I/O (io), 72 I/O (io), 73 I/O (io), 74 I/O (io), 75 I/O (io), 76 I/O (io), 77 I/O (io), 78 I/O (io), 79 I/O (io), 80 I/O (io), 81 GND (power), 82 GND (power), 83 INPUT (in), 84 INPUT (in)

## EPM5192LI
designator U?
General-Purpose MAX 5000 EPLD with 192 Macrocells, PLCC84, Industrial Grade; ComponentAvailability: Discontinued; Published: 24-Nov-2000; LatestRevisionDate: 13-Apr-2006; LatestRevisionNote: IPC-7351 Footprint Added.; DatasheetVersion: Mar-1995; PackageVersion: ver14.1, Oct-2005; PackageReference: PLCC84; Publisher: Altium Limited; PackageDescription: 84-Pin Plastic J-Lead Chip Carrier (PLCC84); Code_JEDEC: MS-018-AF; Code_IPC: PLCC-84; ComponentLink1Description: Manufacturer Link; ComponentLink1URL: http://www.altera.com/literature/lit-mature.jsp
footprint PLCC84_N (Leaded Chip Carrier, 84-Leads, Body 29.3x29.3mm, Pitch 1.27mm, IPC Medium Density)
footprint PLCC84_L (Leaded Chip Carrier, 84-Leads, Body 29.3x29.3mm, Pitch 1.27mm, IPC High Density)
footprint PLCC84_M (Leaded Chip Carrier, 84-Leads, Body 29.3x29.3mm, Pitch 1.27mm, IPC Low Density)
3D model EPM5192-PLCC84 (84-Pin Plastic J-Lead Chip Carrier (PLCC84))
pins: 1 INPUT/CLK (in), 2 INPUT (in), 3 VCC (power), 4 I/O (io), 5 I/O (io), 6 I/O (io), 7 I/O (io), 8 I/O (io), 9 I/O (io), 10 I/O (io), 11 I/O (io), 12 I/O (io), 13 I/O (io), 14 I/O (io), 15 I/O (io), 16 I/O (io), 17 I/O (io), 18 GND (power), 19 GND (power), 20 I/O (io), 21 I/O (io), 22 I/O (io), 23 I/O (io), 24 VCC (power), 25 I/O (io), 26 I/O (io), 27 I/O (io), 28 I/O (io), 29 I/O (io), 30 I/O (io), 31 I/O (io), 32 I/O (io), 33 I/O (io), 34 I/O (io), 35 I/O (io), 36 I/O (io), 37 I/O (io), 38 I/O (io), 39 GND (power), 40 GND (power), 41 INPUT (in), 42 INPUT (in), 43 INPUT (in), 44 INPUT (in), 45 VCC (power), 46 I/O (io), 47 I/O (io), 48 I/O (io), 49 I/O (io), 50 I/O (io), 51 I/O (io), 52 I/O (io), 53 I/O (io), 54 I/O (io), 55 I/O (io), 56 I/O (io), 57 I/O (io), 58 I/O (io), 59 I/O (io), 60 GND (power), 61 GND (power), 62 I/O (io), 63 I/O (io), 64 I/O (io), 65 I/O (io), 66 VCC (power), 67 I/O (io), 68 I/O (io), 69 I/O (io), 70 I/O (io), 71 I/O (io), 72 I/O (io), 73 I/O (io), 74 I/O (io), 75 I/O (io), 76 I/O (io), 77 I/O (io), 78 I/O (io), 79 I/O (io), 80 I/O (io), 81 GND (power), 82 GND (power), 83 INPUT (in), 84 INPUT (in)